# Altium schematic symbol library PFSM_150_2.SchLib: 1 symbol
Pins are listed as number, name and electrical type; pins without a type are passive.

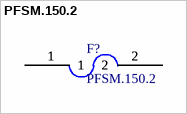
[diagram p0: symbol PFSM.150.2]

## PFSM.150.2
designator F?
PTC RESET FUSE 15V 1.5A 2SMD; Trip Current: 3A; Hold Current: 1.5A
footprint PFSM.150.2
pins: 1, 1, 2, 2